# Altium footprint library TDFN.PcbLib: 1 footprints
Each footprint in its own frame and in the unit in brackets; x right, y up, seen from the top. Pads: shape width x height; smd on the part's side, far side on the other; paste and mask are expansions set on the pad; w line width, h text height; cw(c..) or ccw(c..) is an arc to the next point about the centre after c.
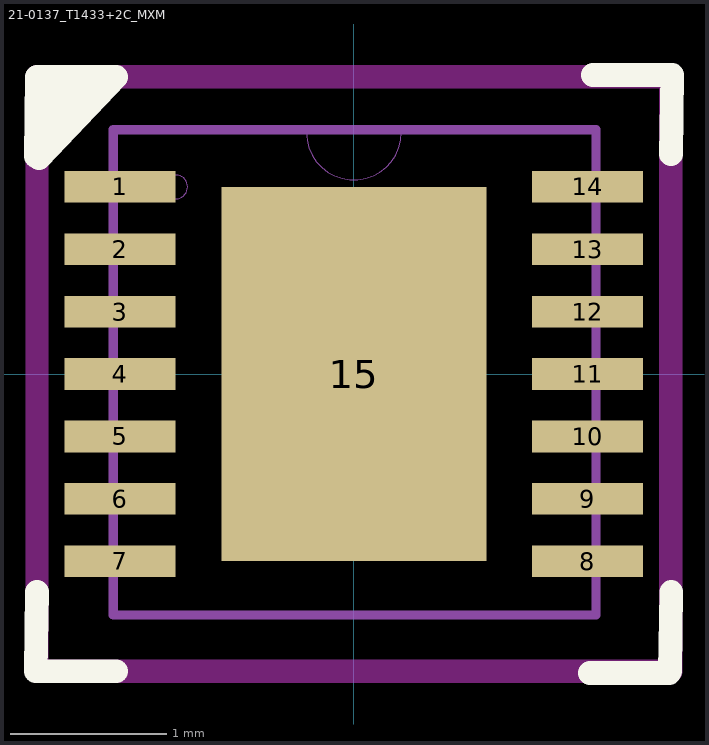
[diagram p0: the footprint, top view; thin cyan lines are the x and y axes]

## 21-0137_T1433+2C_MXM [mil]
pads (15):
  rect 28x8 smd paste+0 mask+0: 1(-59,47.24) 2(-59,31.5) 3(-59,15.75) 4(-59,0) 5(-59,-15.75) 6(-59,-31.5) 7(-59,-47.24) 8(59,-47.24) 9(59,-31.5) 10(59,-15.75) 11(59,0) 12(59,15.75) 13(59,31.5) 14(59,47.24)
  rect 66.93x94.49 smd paste+0 mask+0: 15(0,0)
Top Overlay:
  lines w6: -80.3,-75 -80,-55 ; -80.3,55 -80,75 -60,75 -79.51,54.48 ; -80,-75 -60,-75 ; 59.6,-75.43 79.6,-75.43 ; 60.34,75.46 80.34,75.46 80.04,55.46 ; 79.79,-75 80.09,-55
  lines w13: -75,65 -70,70
Keep-Out Layer:
  lines w5.91: -80,-75 80,-75 80,75 -80,75 -80,-75
Mechanical 13:
  circle w0: c-45,47.24 r3
  lines w0: -12,61 ccw(c0,61) 12,61
  lines w1: -61,-61 61,-61 61,61 -61,61 -61,-61
Mechanical 15:
  lines w2.36: -60.78,-60.83 61.12,-60.83 61.12,61.75 -60.78,61.75 -60.78,-60.83
3D body "21-0137_T1433+2C_MXM.step": height 32.09, standoff 0, extent -60.98,-60.98 60.98,60.98